# Altium schematic symbol library Schlib2.SchLib: 1 symbol
Pins are listed as number, name and electrical type; pins without a type are passive.

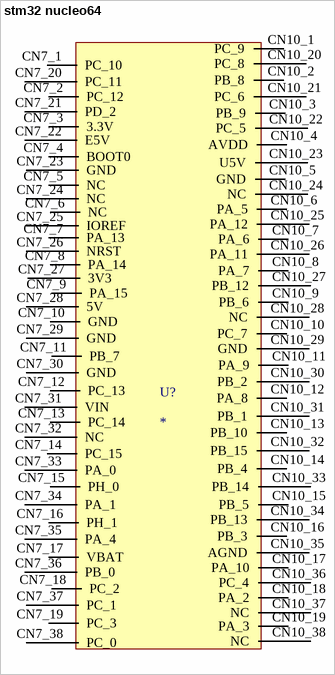
[diagram p0: symbol stm32 nucleo64]

## stm32 nucleo64
designator U?
footprint Stm32 nucleo 64
pins: CN7_1 PC_10, CN7_2 PC_12, CN7_3 3.3V, CN7_4 BOOT0, CN7_5 NC, CN7_6 NC, CN7_7 PA_13, CN7_8 PA_14, CN7_9 PA_15, CN7_10 GND, CN7_11 PB_7, CN7_12 PC_13, CN7_13 PC_14, CN7_14 PC_15, CN7_15 PH_0, CN7_16 PH_1, CN7_17 VBAT, CN7_18 PC_2, CN7_19 PC_3, CN7_20 PC_11, CN7_21 PD_2, CN7_22 E5V, CN7_23 GND, CN7_24 NC, CN7_25 IOREF, CN7_26 NRST, CN7_27 3V3, CN7_28 5V, CN7_29 GND, CN7_30 GND, CN7_31 VIN, CN7_32 NC, CN7_33 PA_0, CN7_34 PA_1, CN7_35 PA_4, CN7_36 PB_0, CN7_37 PC_1, CN7_38 PC_0, CN10_1 PC_9, CN10_2 PB_8, CN10_3 PB_9, CN10_4 AVDD, CN10_5 GND, CN10_6 PA_5, CN10_7 PA_6, CN10_8 PA_7, CN10_9 PB_6, CN10_10 PC_7, CN10_11 PA_9, CN10_12 PA_8, CN10_13 PB_10, CN10_14 PB_4, CN10_15 PB_5, CN10_16 PB_3, CN10_17 PA_10, CN10_18 PA_2, CN10_19 PA_3, CN10_20 PC_8, CN10_21 PC_6, CN10_22 PC_5, CN10_23 U5V, CN10_24 NC, CN10_25 PA_12, CN10_26 PA_11, CN10_27 PB_12, CN10_28 NC, CN10_29 GND, CN10_30 PB_2, CN10_31 PB_1, CN10_32 PB_15, CN10_33 PB_14, CN10_34 PB_13, CN10_35 AGND, CN10_36 PC_4, CN10_37 NC, CN10_38 NC